# Altium footprint library 助学板PCB封装库_altera.PcbLib: 28 footprints (part 2 of 2)
Each footprint in its own frame and in the unit in brackets; x right, y up, seen from the top. Pads: shape width x height; smd on the part's side, far side on the other; paste and mask are expansions set on the pad; w line width, h text height; cw(c..) or ccw(c..) is an arc to the next point about the centre after c.
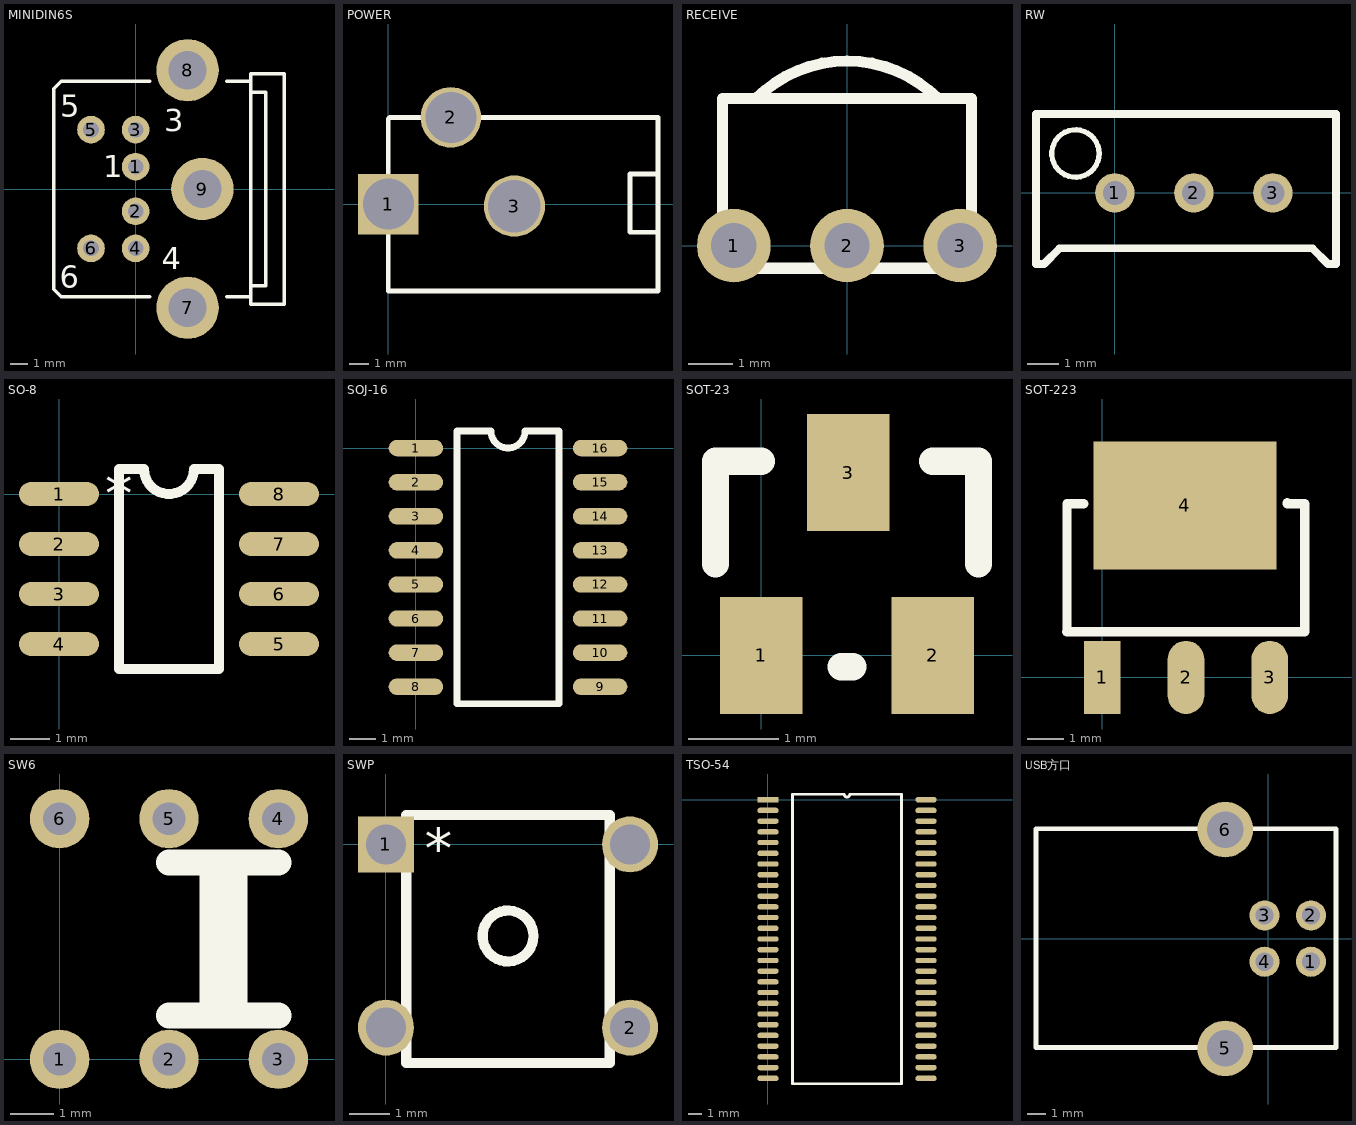
[diagram p1: the footprints below, top view; thin cyan lines are the x and y axes]

## MINIDIN6S [mil]
pads (9):
  round 62 hole 35: 1(0,50) 2(0,-50) 3(0,133.33) 4(0,-133.33) 5(-100,133.33) 6(-100,-133.33)
  round 140 hole 86: 7(116.67,-266.67) 8(116.67,266.67) 9(150,0)
Top Overlay:
  lines w8: 31.5,-241.67 -166.67,-241.67 -183.33,-225 -183.33,225 -166.67,241.67 31.5,241.67 ; 204.72,-241.67 258.33,-241.67 ; 204.72,241.67 258.33,241.67 ; 258.33,-216.67 258.33,-258.33 333.33,-258.33 333.33,258.33 258.33,258.33 258.33,216.67 ; 258.33,-216.67 291.67,-216.67 291.67,216.67 258.33,216.67 ; 258.33,-216.67 258.33,216.67
  text "5" at -169.43,162.57 h50
  text "6" at -170.76,-221.43 h50
  text "4" at 58.57,-180.1 h50
  text "3" at 63.9,129.23 h50
  text "1" at -72.1,26.57 h50

## POWER [mil]
pads (3):
  rect 125x125 hole 105: 1(0,0)
  round 125 hole 105: 2(129,179)
  round 126.3 hole 108.42: 3(260,-4)
Top Overlay:
  lines w10: 555,-178 556,-179 ; 556,-58 498,-58 498,62 556,62 ; 556,-179 0,-179 0,176 3,179 556,179 556,-179

## RECEIVE [mil]
pads (3):
  round 65 hole 40: 1(-100,0) 2(0,0) 3(100,0)
Top Overlay:
  lines w10: -80,130 cw(c0,50) 80,130 ; -110,-20 -110,130 110,130 110,-20 -110,-20

## RW [mil]
pads (3):
  round 50 hole 30: 1(0,0) 2(100,0) 3(200,0)
Top Overlay:
  circle w6.69: c-50,50 r30
  lines w10: 200,-70 250,-70 270,-90 280,-90 280,100 -100,100 -100,-90 -90,-90 -70,-70 240,-70

## SO-8 [mil]
pads (8):
  oval 80x24 smd: 1(0,0) 2(0,-50) 3(0,-100) 4(0,-150) 5(220,-150) 6(220,-100) 7(220,-50) 8(220,0)
Top Overlay:
  lines w10: 60,-175 60,25 85,25 ccw(c110,25) 135,25 160,25 160,-175 60,-175
  text "*" at 46,-19 h40

## SOJ-16 [mil]
pads (16):
  oval 80x24 smd: 1(0,0) 2(0,-50) 3(0,-100) 4(0,-150) 5(0,-200) 6(0,-250) 7(0,-300) 8(0,-350) 9(270,-350) 10(270,-300) 11(270,-250) 12(270,-200) 13(270,-150) 14(270,-100) 15(270,-50) 16(270,0)
Top Overlay:
  lines w10: 60,-375 60,25 110,25 ccw(c135,25) 160,25 210,25 210,-375 60,-375

## SOT-23 [mil]
pads (3):
  rect 36x51.18 smd: 1(0,0) 2(75,0) 3(38,80)
Top Overlay:
  lines w12: -20,40 -20,85 0,85 ; 35,-5 40,-5 ; 75,85 95,85 95,40

## SOT-223 [mm]
pads (4):
  rect 1x2 smd: 1(0,0)
  oval 1x2 smd: 2(2.29,0) 3(4.58,0)
  rect 5x3.5 smd: 4(2.261,4.699)
Top Overlay:
  lines w0.254: -0.965,1.25 5.537,1.25 5.537,4.75 5.055,4.75 5.055,4.775 ; -0.963,1.25 -0.963,4.75 -0.508,4.75

## SW6 [mm]
pads (6):
  round 1.38 hole 0.762: 1(0,0) 2(2.54,0) 3(5.08,0) 4(5.08,5.588) 5(2.54,5.588) 6(0,5.588)
Top Overlay:
  lines w0.61: 2.54,1.016 5.08,1.016 ; 2.54,4.572 5.08,4.572 ; 3.556,1.016 3.556,4.572 ; 4.064,1.016 4.064,4.572

## SWP [mil]
pads (4):
  rect 55x55 hole 39.37: 1(0,0)
  round 55 hole 39.37: 2(240,-180) ""(0,-180) ""(240,0)
Top Overlay:
  circle w10: c120,-90 r25
  lines w10: 20,-215 20,29.09 220,29.09 220,-215 20,-215
  text "*" at 38,-24 h40

## TSO-54 [mm]
pads (54):
  rect 1.6x0.4 smd: 1(0,0)
  oval 1.6x0.4 smd: 2(0,-0.8) 3(0,-1.6) 4(0,-2.4) 5(0,-3.2) 6(0,-4) 7(0,-4.8) 8(0,-5.6) 9(0,-6.4) 10(0,-7.2) 11(0,-8) 12(0,-8.8) 13(0,-9.6) 14(0,-10.4) 15(0,-11.2) 16(0,-12) 17(0,-12.8) 18(0,-13.6) 19(0,-14.4) 20(0,-15.2) 21(0,-16) 22(0,-16.8) 23(0,-17.6) 24(0,-18.4) 25(0,-19.2) 26(0,-20) 27(0,-20.8) 28(11.8,-20.8) 29(11.8,-20) 30(11.8,-19.2) 31(11.8,-18.4) 32(11.8,-17.6) 33(11.8,-16.8) 34(11.8,-16) 35(11.8,-15.2) 36(11.8,-14.4) 37(11.8,-13.6) 38(11.8,-12.8) 39(11.8,-12) 40(11.8,-11.2) 41(11.8,-10.4) 42(11.8,-9.6) 43(11.8,-8.8) 44(11.8,-8) 45(11.8,-7.2) 46(11.8,-6.4) 47(11.8,-5.6) 48(11.8,-4.8) 49(11.8,-4) 50(11.8,-3.2) 51(11.8,-2.4) 52(11.8,-1.6) 53(11.8,-0.8) 54(11.8,0)
Top Overlay:
  lines w0.2: 1.835,-21.2 1.835,0.4 5.7,0.4 ccw(c5.9,0.4) 6.1,0.4 9.965,0.4 9.965,-21.2 1.835,-21.2

## USB方口 [mil]
pads (6):
  round 65 hole 39.37: 1(92.15,-49.39) 2(92.15,50.61) 3(-7.85,50.61) 4(-7.85,-49.39)
  round 120 hole 78.74: 5(-92.85,-236.39) 6(-92.85,235.61)
Top Overlay:
  lines w10: -500.85,-234.39 146.15,-234.39 146.15,237.61 -500.85,237.61 -500.85,-234.39